# Altium footprint library LEDs.PcbLib: 3 footprints
Each footprint in its own frame and in the unit in brackets; x right, y up, seen from the top. Pads: shape width x height; smd on the part's side, far side on the other; paste and mask are expansions set on the pad; w line width, h text height; cw(c..) or ccw(c..) is an arc to the next point about the centre after c.
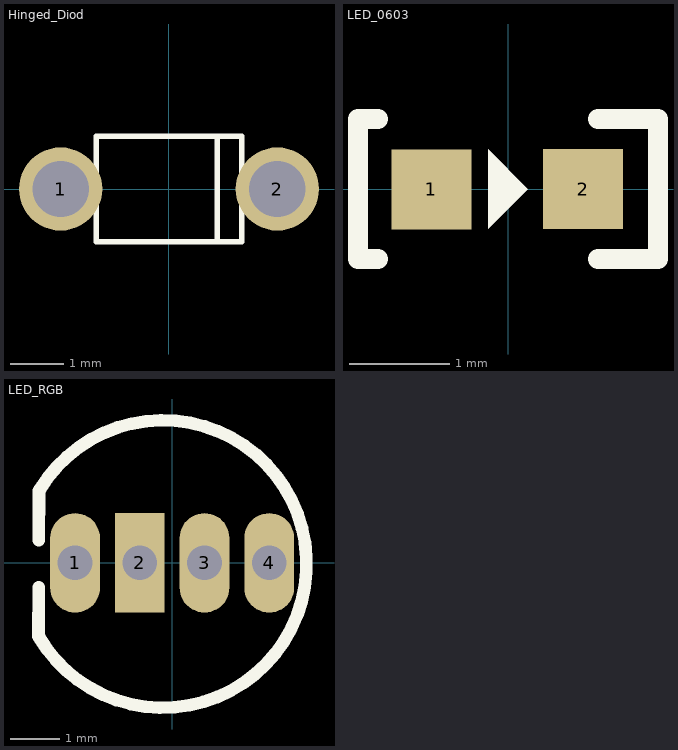
[diagram p0: the footprints below, top view; thin cyan lines are the x and y axes]

## Hinged_Diod [mil]
pads (2):
  round 62 hole 42 paste-99999 mask+0: 1(-80.71,0) 2(80.71,0)
Top Overlay:
  lines w3.94: 35.91,-39.37 35.91,39.37 ; -54.13,-39.37 -54.13,39.37 54.13,39.37 54.13,-39.37 -54.13,-39.37
3D body "Diod.stp": height 78.74, standoff -122.83, extent -87.39,-39.08 91.32,39.08

## LED_0603 [mm]
pads (2):
  rect 0.8x0.8 smd: 1(-0.766,-0.003) 2(0.75,0)
Top Overlay:
  region: -0.2,0.4 -0.2,-0.4 0.2,0
  lines w0.2: -1.3,-0.7 -1.5,-0.7 -1.5,0.7 -1.3,0.7 ; 0.9,-0.7 1.5,-0.7 1.5,0.7 0.9,0.7
3D body "SMD LED 0603.stp": height 0.58, standoff 0, extent -0.8,-0.4 0.8,0.4

## LED_RGB [mm]
pads (4):
  oval 1x2 hole 0.7: 1(-1.95,0) 3(0.65,0) 4(1.95,0)
  rect 1x2 hole 0.7: 2(-0.65,0)
Top Overlay:
  lines w0.254: -2.682,-0.497 -2.686,-1.475 ccw(c-0.188,-0.024) -2.675,1.446 -2.679,0.451